# Altium footprint library PLS_R.PcbLib: 1 footprints
Each footprint in its own frame and in the unit in brackets; x right, y up, seen from the top. Pads: shape width x height; smd on the part's side, far side on the other; paste and mask are expansions set on the pad; w line width, h text height; cw(c..) or ccw(c..) is an arc to the next point about the centre after c.
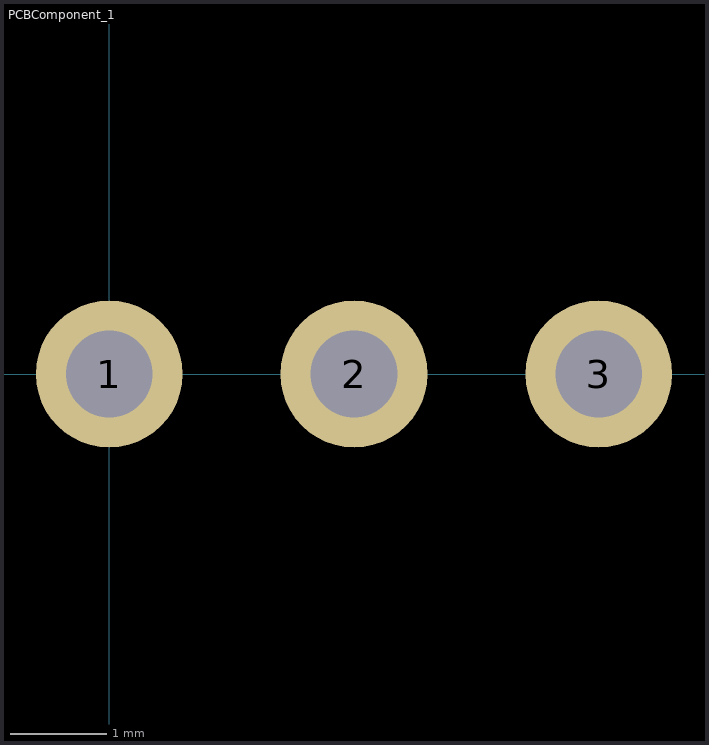
[diagram p0: the footprint, top view; thin cyan lines are the x and y axes]

## PCBComponent_1 [mil]
pads (3):
  round 60 hole 35.5: 1(0,0) 2(100,0) 3(200,0)
3D body "User Library-PLT.STEP": height 300, standoff -118.11, extent -12.65,-51 595.22,49